# Altium schematic symbol library Schlib1.SchLib: 3 symbols
Pins are listed as number, name and electrical type; pins without a type are passive.

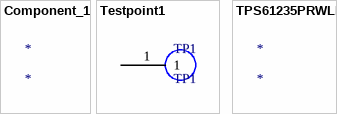
[diagram p0: symbols Component_1 to TPS61235PRWLR]

## Component_1
designator *

## Testpoint1
designator TP1, comment TP1  (no BOM)
footprint Testpoint1
pins: 1

## TPS61235PRWLR
designator *
Switching Regulator, Current/voltage-mode, 9.5A, 1250kHz Switching Freq-Max; Manufacturer: Texas Instruments; Manufacturer Part Number: TPS61235PRWLR; Supplier: Mouser; Supplier Part Number: 595-TPS61235PRWLR; RoHS: Yes; Category: Voltage Regulators - Switching; Stock: 1924; Pricing: 1=1.8, 10=1.59, 50=1.59, 100=1.39, 1000=1.05, 10000=0.991 (USD); Terminal Finish: Nickel; JESD-609 Code: e4; Throw Configuration: SWITCHING REGULATOR; Moisture Sensitivity Level: 1; Reach SVHC Compliant: Yes; RoHS Compliant: Yes; ComponentLink1URL: https://www.ti.com:443/lit/ds/symlink/tps61235p.pdf?src-supplier=IHS+Markit; ComponentLink1Description: https://www.ti.com:443/lit/ds/symlink/tps61235p.pdf?src-supplier=IHS+Markit; ComponentLink2URL: http://www.ti.com/lit/pdf/slyt522?src-supplier=Digikey; ComponentLink2Description: http://www.ti.com/lit/pdf/slyt522?src-supplier=Digikey; ComponentLink3URL: http://www.ti.com/lit/ds/symlink/tps61235p.pdf?src-supplier=Digikey; ComponentLink3Description: http://www.ti.com/lit/ds/symlink/tps61235p.pdf?src-supplier=Digikey; ComponentLink4URL: http://www.ti.com/general/docs/suppproductinfo.tsp?distId=10&amp;gotoUrl=http%3A%2F%2Fwww.ti.com%2Flit%2Fgpn%2Ftps61235p&src-supplier=Digikey; ComponentLink4Description: http://www.ti.com/general/docs/suppproductinfo.tsp?distId=10&amp;gotoUrl=http%3A%2F%2Fwww.ti.com%2Flit%2Fgpn%2Ftps61235p&src-supplier=Digikey